# Altium footprint library Motorshield.PcbLib: 2 footprints
Each footprint in its own frame and in the unit in brackets; x right, y up, seen from the top. Pads: shape width x height; smd on the part's side, far side on the other; paste and mask are expansions set on the pad; w line width, h text height; cw(c..) or ccw(c..) is an arc to the next point about the centre after c.
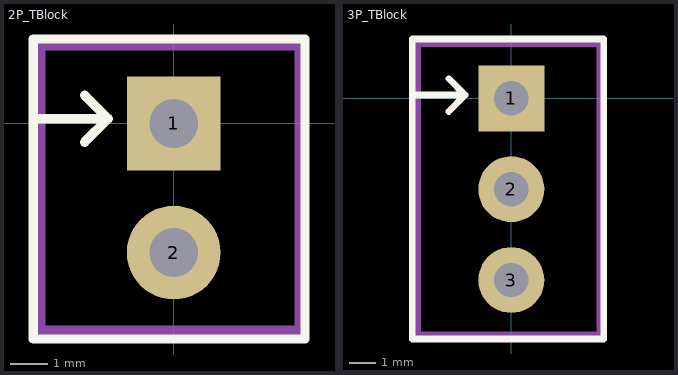
[diagram p0: the footprints below, top view; thin cyan lines are the x and y axes]

## 2P_TBlock [mil] "2 Pin Terminal Block (3.5mm pitch)"
height 334.65
pads (2):
  rect 100x100 hole 52: 1(0,0)
  round 100 hole 52: 2(0,-137.8)
Top Overlay:
  lines w10: -150,5 -70,5 ; -95,-20 -70,5 ; -70,5 -95,30 -70,5 ; -150,-230 -150,90 140,90 140,-230 -150,-230
Mechanical 1:
  lines w10: -141.73,-220.47 133.86,-220.47 133.86,82.68 -141.73,82.68 -141.73,-220.47

## 3P_TBlock [mil] "3 Pin Terminal Block (3.5mm pitch)"
height 334.65
pads (3):
  rect 100x100 hole 52: 1(0,0)
  round 100 hole 52: 2(0,-137.8) 3(0,-275.59)
Top Overlay:
  lines w10: -145,5 -70,5 ; -95,-20 -70,5 ; -70,5 -95,30 -70,5 ; -150,-365 -150,90 140,90 140,-365 -150,-365
Mechanical 1:
  lines w10: -141.73,-358.27 -141.73,82.68 133.86,82.68 133.86,-358.27 -141.73,-358.27